# EAGLE library part LPC810M021FN8FP (library modular_robotics)
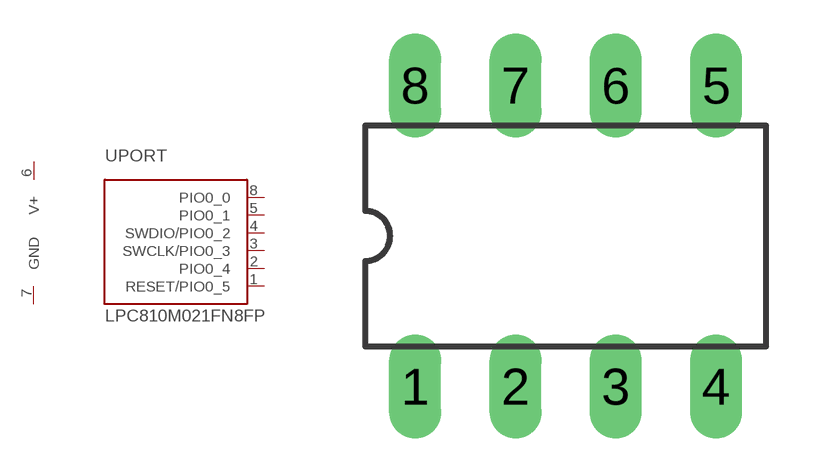
[diagram p12: symbol with the pads of DIL08; footprint DIL08]

Designator prefix -; gates PORT=LPC810M021FN8FP PWR=PWR+G

## LPC810M021FN8FP-DIL08  [DIL08]
1  PORT:RESET/PIO0_5
2  PORT:PIO0_4
3  PORT:SWCLK/PIO0_3
4  PORT:SWDIO/PIO0_2
5  PORT:PIO0_1
6  PWR:V+  pwr
7  PWR:GND  pwr
8  PORT:PIO0_0

## Footprint DIL08 (pad centres in mm)
Dual In Line
drill 0.813 long: 1 -3.81,-3.81; 2 -1.27,-3.81; 3 1.27,-3.81; 4 3.81,-3.81; 5 3.81,3.81; 6 1.27,3.81; 7 -1.27,3.81; 8 -3.81,3.81